# Altium schematic symbol library AndGate.SchLib: 2 symbols
Pins are listed as number, name and electrical type; pins without a type are passive.

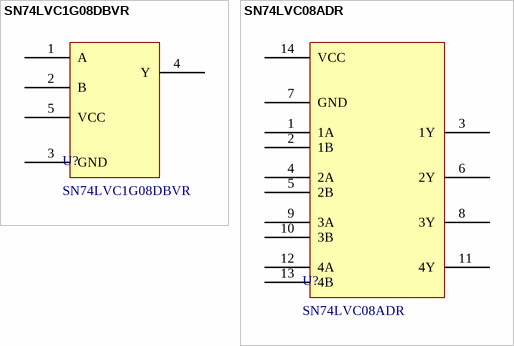
[diagram p0: symbols SN74LVC1G08DBVR to SN74LVC08ADR]

## SN74LVC1G08DBVR
designator U?
Single 2-Input Positive-AND Gate; Manufacturer: Texas Instruments; High Level Output Current: - 32 mA; Number of Gates: 1 Gate; Logic Type: AND; Low Level Output Current: 32 mA; Number of Input Lines: 2 Input; Supply Voltage - Max: 5.5 V; Supply Voltage - Min: 1.65 V; Working Voltage: 1.65 V to 5.5 V; Number of Output Lines: 1 Output; Propagation Delay Time: 3.6 ns; ComponentLink1Description: Datasheet; ComponentLink1URL: https://www.lcsc.com/datasheet/C7666.pdf?spm=wm.sxq.inf.ggs___wm.fly.bg.0.xh&lcsc_vid=FQMKBABWTgUIBQJQFFEMBgBUFFIPVlNeFQReAQVWFFgxVlNeQVJdUVBSQFVdVDsOAxUeFF5JWBYZEEoKFBINSQcJGk4NBhADEA4cHktfQ1BADxALGw%3D%3D; LCSC Part #: C7666; Manufacturer Part Number: SN74LVC1G08DBVR; Mount: SMD/SMT; Operating Temperature Max: + 125 C; Operating Temperature Min: - 40 C; Packaging: SOT-23-5; Supplier 1 Part Number: 595-SN74LVC1G08DBVR; Supplier 1 URL: https://www.mouser.vn/en/ProductDetail/Texas-Instruments/SN74LVC1G08DBVR?qs=8yeEWhuAOtNjtL049wSCoQ%3D%3D; Supplier 1: Mouser; Supplier 2 Part Number: 4518-SN74LVC1G08DBVRTR-ND; Supplier 2 URL: https://www.digikey.com/en/products/detail/umw/sn74lvc1g08dbvr/16705961; Supplier 2: Digi-Key; Supplier 3 Part Number: N/A; Supplier 3 URL: N/A; Supplier 3: thegioiic; Value: SN74LVC1G08DBVR
footprint SN74LVC1G08DBVR (SOT23, 5-Leads, Body 2.90x2.80mm, Pitch 0.95mm, IPC Medium Density)
pins: 1 A, 2 B, 3 GND, 4 Y, 5 VCC

## SN74LVC08ADR
designator U?
Quadruple 2-Input Positive-AND Gates; Manufacturer: Texas Instruments; High Level Output Current: - 24 mA; Number of Gates: 4 Gate; Logic Type: AND; Low Level Output Current: 24 mA; Number of Input Lines: 8 Input; Supply Voltage - Max: 3.6 V; Supply Voltage - Min: 1.65 V; Working Voltage: 1.65 V to 3.6 V; Number of Output Lines: 4 Output; Propagation Delay Time: 4.1 ns; ComponentLink1Description: Datasheet; ComponentLink1URL: https://www.lcsc.com/datasheet/C7666.pdf?spm=wm.sxq.inf.ggs___wm.fly.bg.0.xh&lcsc_vid=FQMKBABWTgUIBQJQFFEMBgBUFFIPVlNeFQReAQVWFFgxVlNeQVJdUVBSQFVdVDsOAxUeFF5JWBYZEEoKFBINSQcJGk4NBhADEA4cHktfQ1BADxALGw%3D%3D; LCSC Part #: C468253; Manufacturer Part Number: SN74LVC08ADR; Mount: SMD/SMT; Operating Temperature Max: + 125 C; Operating Temperature Min: - 40 C; Packaging: SOIC-14; Supplier 1 Part Number: 595-SN74LVC08ADR; Supplier 1 URL: https://www.mouser.vn/en/ProductDetail/Texas-Instruments/SN74LVC08ADR?qs=RZS%252BpEsUn7rNc8lx9gkiiQ%3D%3D; Supplier 1: Mouser; Supplier 2 Part Number: 296-1697-2-ND; Supplier 2 URL: https://www.digikey.com/en/products/detail/texas-instruments/sn74lvc08adr/377394; Supplier 2: Digi-Key; Supplier 3 Part Number: N/A; Supplier 3 URL: N/A; Supplier 3: thegioiic; Value: SN74LVC08ADR
footprint SN74LVC08ADR (SOIC, 14-Leads, Body 10.20x5.30mm, Pitch 1.27mm, IPC Medium Density)
pins: 1 1A, 2 1B, 3 1Y, 4 2A, 5 2B, 6 2Y, 7 GND, 8 3Y, 9 3A, 10 3B, 11 4Y, 12 4A, 13 4B, 14 VCC